# Altium footprint library Header1.PcbLib: 1 footprints
Each footprint in its own frame and in the unit in brackets; x right, y up, seen from the top. Pads: shape width x height; smd on the part's side, far side on the other; paste and mask are expansions set on the pad; w line width, h text height; cw(c..) or ccw(c..) is an arc to the next point about the centre after c.
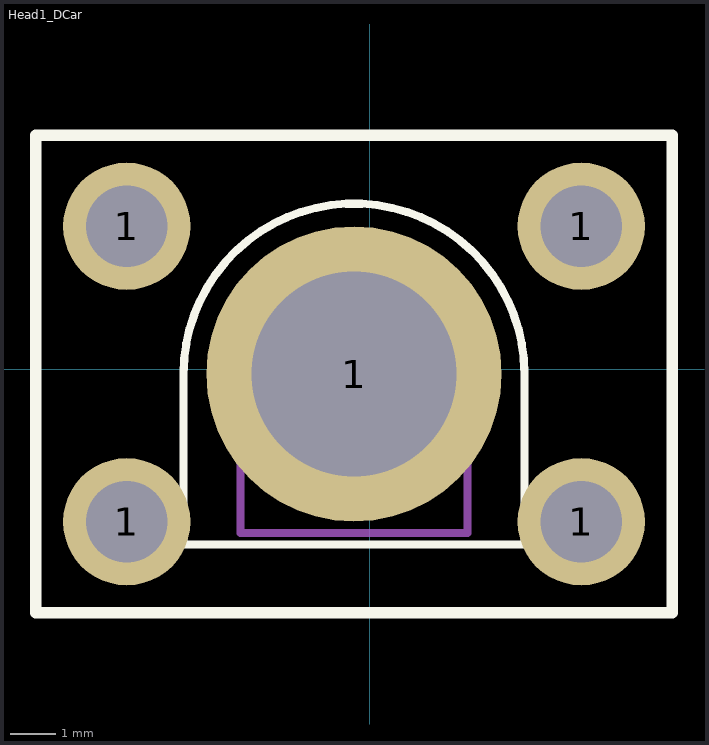
[diagram p0: the footprint, top view; thin cyan lines are the x and y axes]

## Head1_DCar [mm]
pads (5):
  round 2.8 hole 1.8: 1(-5.349,-3.353) 1(-5.349,3.147) 1(4.651,-3.353) 1(4.651,3.147)
  round 6.5 hole 4.5: 1(-0.349,-0.103)
Top Overlay:
  lines w0.178: -4.099,-3.853 3.401,-3.853 3.401,-0.103 ccw(c-0.349,-0.103) -4.099,-0.103 -4.099,-3.853
  lines w0.254: -7.349,-5.353 -7.349,5.147 6.651,5.147 6.651,-5.353 -7.349,-5.353
Mechanical 1:
  circle w0.254: c-0.349,-0.103 r2.5
  lines w0.178: -2.849,-0.603 -2.849,-3.603 2.151,-3.603 2.151,-0.603 ; -2.8,-0.593 cw(c-0.349,-0.103) 2.102,-0.593
3D body "terminal2.STEP": height 6, standoff -2, extent -2.849,-3.603 2.151,2.397
3D body: height 1.5, standoff 0, extent 5.901,-5.353 6.651,5.147
3D body: height 4, standoff 0, extent 4.401,-5.353 5.151,5.147
3D body: height 4, standoff 0, extent 2.651,-5.353 3.401,5.147
3D body: height 4, standoff 0, extent 4.276,-5.353 5.026,5.147
3D body: height 4, standoff 0, extent -5.724,-5.353 -4.974,5.147
3D body: height 4.75, standoff 4, extent -0.349,-5.353 5.026,5.147
3D body: height 4.75, standoff 4, extent -5.724,-5.353 -0.349,5.147